# Altium schematic symbol library NCV8705MT33TCG.SchLib: 1 symbol
Pins are listed as number, name and electrical type; pins without a type are passive.

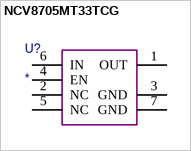
[diagram p0: symbol NCV8705MT33TCG]

## NCV8705MT33TCG
designator U?
pins: 1 OUT, 2 NC, 3 GND, 4 EN, 5 NC, 6 IN, 7 GND